# Altium footprint library LaunchyRIOFootprints.PcbLib: 21 footprints (part 2 of 2)
Each footprint in its own frame and in the unit in brackets; x right, y up, seen from the top. Pads: shape width x height; smd on the part's side, far side on the other; paste and mask are expansions set on the pad; w line width, h text height; cw(c..) or ccw(c..) is an arc to the next point about the centre after c.
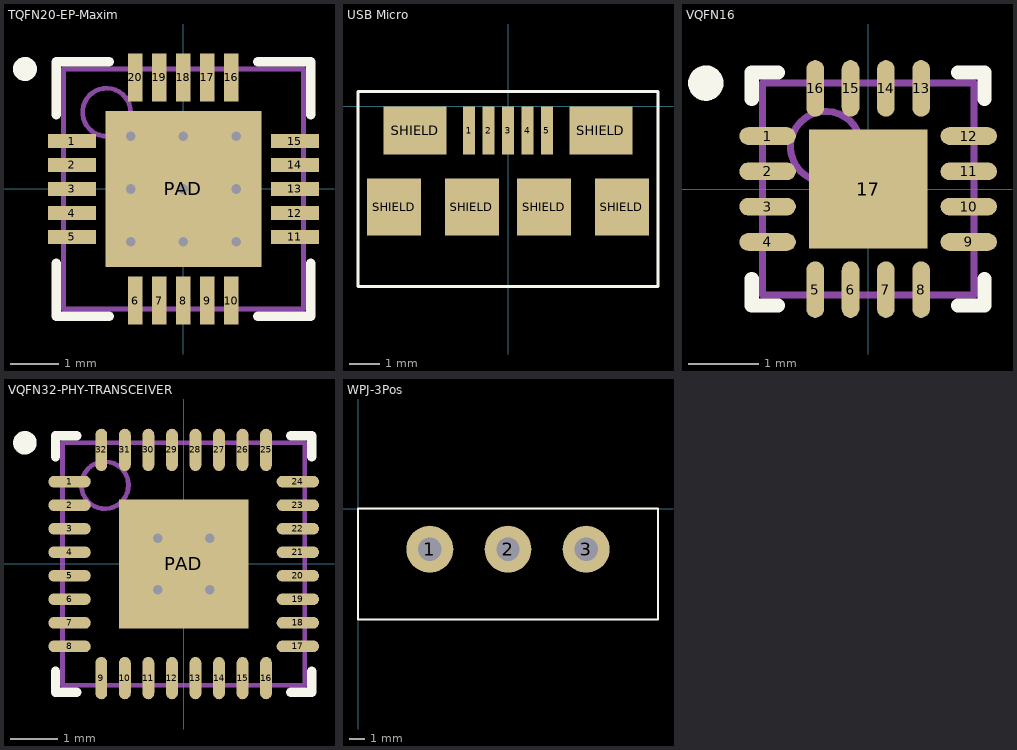
[diagram p1: the footprints below, top view; thin cyan lines are the x and y axes]

## TQFN20-EP-Maxim [mm]
height 0.8
pads (21):
  rect 1x0.3 smd: 1(-2.325,1) 2(-2.325,0.5) 3(-2.325,0) 4(-2.325,-0.5) 5(-2.325,-1) 11(2.325,-1) 12(2.325,-0.5) 13(2.325,0) 14(2.325,0.5) 15(2.325,1)
  rect 0.3x1 smd: 6(-1,-2.325) 7(-0.5,-2.325) 8(0,-2.325) 9(0.5,-2.325) 10(1,-2.325) 16(1,2.325) 17(0.5,2.325) 18(0,2.325) 19(-0.5,2.325) 20(-1,2.325)
  rect 3.25x3.25 smd: PAD(0,0)
via 1.1,-1.1 diameter 0.5 hole 0.2
via 0,-1.1 diameter 0.5 hole 0.2
via -1.1,-1.1 diameter 0.5 hole 0.2
via 1.1,0 diameter 0.5 hole 0.2
via 0,0 diameter 0.5 hole 0.2
via -1.1,0 diameter 0.5 hole 0.2
via 1.1,1.1 diameter 0.5 hole 0.2
via 0,1.1 diameter 0.5 hole 0.2
via -1.1,1.1 diameter 0.5 hole 0.2
Top Overlay:
  circle w0.25: c-3.3,2.5 r0.125
  lines w0.2: -2.65,-1.55 -2.65,-2.65 -1.55,-2.65 ; -2.65,1.55 -2.65,2.65 -1.55,2.65 ; 1.55,-2.65 2.65,-2.65 2.65,-1.55 ; 1.55,2.65 2.65,2.65 2.65,1.55
Mechanical 13:
  circle w0.1: c-1.6,1.6 r0.5
  lines w0.1: -2.5,-2.5 2.5,-2.5 2.5,2.5 -2.5,2.5 -2.5,-2.5
3D body: height 0.8, standoff 0.02, extent -2.5,-2.5 2.5,2.5

## USB Micro [mm]
pads (11):
  rect 0.4x1.6 smd: 1(-1.3,-0.8) 2(-0.65,-0.8) 3(0,-0.8) 4(0.65,-0.8) 5(1.3,-0.8)
  rect 1.8x1.9 smd: SHIELD(-3.8,-3.35) SHIELD(-1.2,-3.35) SHIELD(1.2,-3.35) SHIELD(3.8,-3.35)
  rect 2.1x1.6 smd: SHIELD(-3.1,-0.8) SHIELD(3.1,-0.8)
Top Overlay:
  lines w0.1: -5,-6 5,-6 5,0.5 0,0.5 -5,0.5 -5,-6

## VQFN16 [mm] "QFN, 16-Leads, Body 3.00x3.00mm, Pitch 0.50mm, Thermal Pad 1.68x1.68mm, IPC Medium Density"
height 1
pads (17):
  oval 0.8x0.25 smd: 1(-1.425,0.75) 2(-1.425,0.25) 3(-1.425,-0.25) 4(-1.425,-0.75) 9(1.425,-0.75) 10(1.425,-0.25) 11(1.425,0.25) 12(1.425,0.75)
  oval 0.25x0.8 smd: 5(-0.75,-1.425) 6(-0.25,-1.425) 7(0.25,-1.425) 8(0.75,-1.425) 13(0.75,1.425) 14(0.25,1.425) 15(-0.25,1.425) 16(-0.75,1.425)
  rect 1.68x1.68 smd: 17(0,0)
Top Overlay:
  circle w0.25: c-2.3,1.5 r0.125
  lines w0.2: -1.65,-1.275 -1.65,-1.65 -1.275,-1.65 ; -1.65,1.275 -1.65,1.65 -1.275,1.65 ; 1.275,-1.65 1.65,-1.65 1.65,-1.275 ; 1.275,1.65 1.65,1.65 1.65,1.275
Mechanical 13:
  circle w0.1: c-0.6,0.6 r0.5
  lines w0.1: -1.5,-1.5 -1.5,1.5 1.5,1.5 1.5,-1.5 -1.5,-1.5
3D body: height 1, standoff 0.02, extent -1.5,-1.5 1.5,1.5

## VQFN32-PHY-TRANSCEIVER [mm] "QFN, 32-Leads, Body 5.00x5.00mm, Pitch 0.50mm, Thermal Pad 2.75x2.75mm, IPC Medium Density"
height 1
pads (33):
  oval 0.9x0.25 smd: 1(-2.425,1.75) 2(-2.425,1.25) 3(-2.425,0.75) 4(-2.425,0.25) 5(-2.425,-0.25) 6(-2.425,-0.75) 7(-2.425,-1.25) 8(-2.425,-1.75) 17(2.425,-1.75) 18(2.425,-1.25) 19(2.425,-0.75) 20(2.425,-0.25) 21(2.425,0.25) 22(2.425,0.75) 23(2.425,1.25) 24(2.425,1.75)
  oval 0.25x0.9 smd: 9(-1.75,-2.425) 10(-1.25,-2.425) 11(-0.75,-2.425) 12(-0.25,-2.425) 13(0.25,-2.425) 14(0.75,-2.425) 15(1.25,-2.425) 16(1.75,-2.425) 25(1.75,2.425) 26(1.25,2.425) 27(0.75,2.425) 28(0.25,2.425) 29(-0.25,2.425) 30(-0.75,2.425) 31(-1.25,2.425) 32(-1.75,2.425)
  rect 2.75x2.75 smd: PAD(0,0)
via -0.55,0.55 diameter 0.5 hole 0.2
via 0.55,0.55 diameter 0.5 hole 0.2
via -0.55,-0.55 diameter 0.5 hole 0.2
via 0.55,-0.55 diameter 0.5 hole 0.2
Top Overlay:
  circle w0.25: c-3.375,2.575 r0.125
  lines w0.2: -2.725,-2.275 -2.725,-2.725 -2.275,-2.725 ; -2.725,2.275 -2.725,2.725 -2.275,2.725 ; 2.275,-2.725 2.725,-2.725 2.725,-2.275 ; 2.275,2.725 2.725,2.725 2.725,2.275
Mechanical 13:
  circle w0.1: c-1.675,1.675 r0.5
  lines w0.1: -2.575,-2.575 -2.575,2.575 2.575,2.575 2.575,-2.575 -2.575,-2.575
3D body: height 1, standoff 0.05, extent -2.575,-2.575 2.575,2.575

## WPJ-3Pos [mm] "3 Position Power Connector. DigiKey PN: 455-2448-ND"
pads (3):
  round 3 hole 1.5 unplated: 1(4.6,-2.6) 2(9.6,-2.6) 3(14.6,-2.6)
Top Overlay:
  lines w0.127: 0,-7.1 0,0 19.2,0 19.2,-7.1 0,-7.1